# Altium footprint library STEVALSTLCS01V1.PcbLib: 1 footprints
Each footprint in its own frame and in the unit in brackets; x right, y up, seen from the top. Pads: shape width x height; smd on the part's side, far side on the other; paste and mask are expansions set on the pad; w line width, h text height; cw(c..) or ccw(c..) is an arc to the next point about the centre after c.
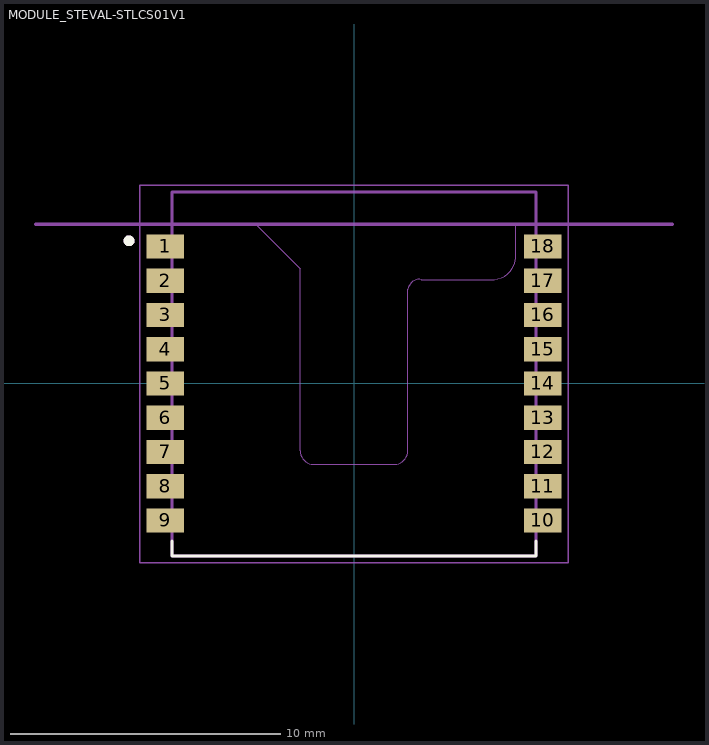
[diagram p0: the footprint, top view; thin cyan lines are the x and y axes]

## MODULE_STEVAL-STLCS01V1 [mm]
pads (18):
  rect 1.4x0.9 smd: 1(-7,5.08) 2(-7,3.81) 3(-7,2.54) 4(-7,1.27) 5(-7,0) 6(-7,-1.27) 7(-7,-2.54) 8(-7,-3.81) 9(-7,-5.08) 10(7,-5.08) 11(7,-3.81) 12(7,-2.54) 13(7,-1.27) 14(7,0) 15(7,1.27) 16(7,2.54) 17(7,3.81) 18(7,5.08)
Top Overlay:
  circle w0.2: c-8.343,5.288 r0.1
  lines w0.127: -6.75,-5.85 -6.75,-6.4 6.75,-6.4 6.75,-5.85
Mechanical 1:
  lines w0: -3.64,5.9 -2,4.26 -2,-2.5 ccw(c-1.5,-2.5) -1.5,-3 1.5,-3 ccw(c1.5,-2.5) 2,-2.5 2,3.5 ; 2,3.502 cw(c2.427,3.427) 2.502,3.853 ; 2.5,3.853 5.2,3.853 ; 5.203,3.853 ccw(c5.127,4.727) 6,4.803 ; 6,4.8 6,5.9
Mechanical 13:
  circle w0.2: c-8.343,5.288 r0.1
  lines w0.127: -11.8,5.9 11.8,5.9 ; -6.75,-6.4 6.75,-6.4 6.75,7.1 -6.75,7.1 -6.75,-6.4
  text "PCB Edge" at 11.8,5.9 h0.8
Mechanical 15:
  lines w0.05: -7.95,-6.65 -7.95,7.35 7.95,7.35 7.95,-6.65 -7.95,-6.65